# EAGLE library part MICROSD (library Connectors > card socket)
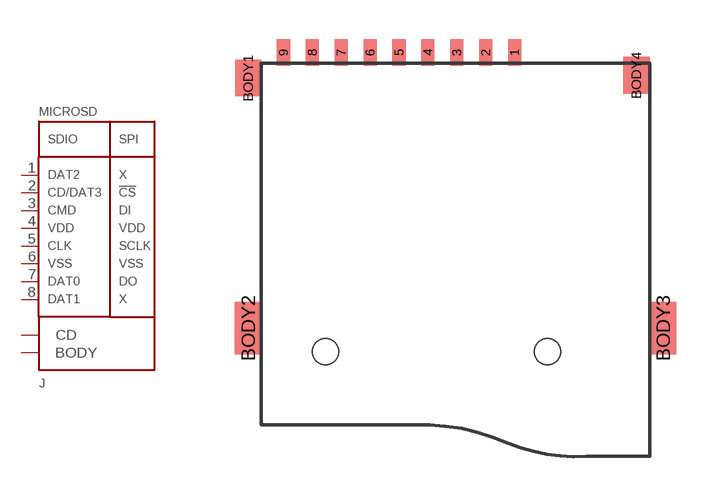
[diagram p0: symbol with the pads of MICRO-SD; footprint MICRO-SD]

Designator prefix J

## MICROSD  [MICRO-SD]
1  1
2  2
3  3
4  4
5  5
6  6
7  7
8  8
9  CD
BODY1  BODY
BODY2  BODY
BODY3  BODY
BODY4  BODY

## Footprint MICRO-SD (pad centres in mm)
smd 0.5 x 1: 1 2.25,6.75; 2 1.15,6.75; 3 0.05,6.75; 4 -1.05,6.75; 5 -2.15,6.75; 6 -3.25,6.75; 7 -4.35,6.75; 8 -5.45,6.75; 9 -6.55,6.75
smd 1 x 1.4: BODY1 -7.89,5.78; BODY4 6.89,5.88
smd 1 x 2: BODY2 -7.9,-3.75; BODY3 7.9,-3.75
hole 1 at -4.95,-4.65
hole 1 at 3.5,-4.65